# EAGLE library part OP297* (library my_mixed)
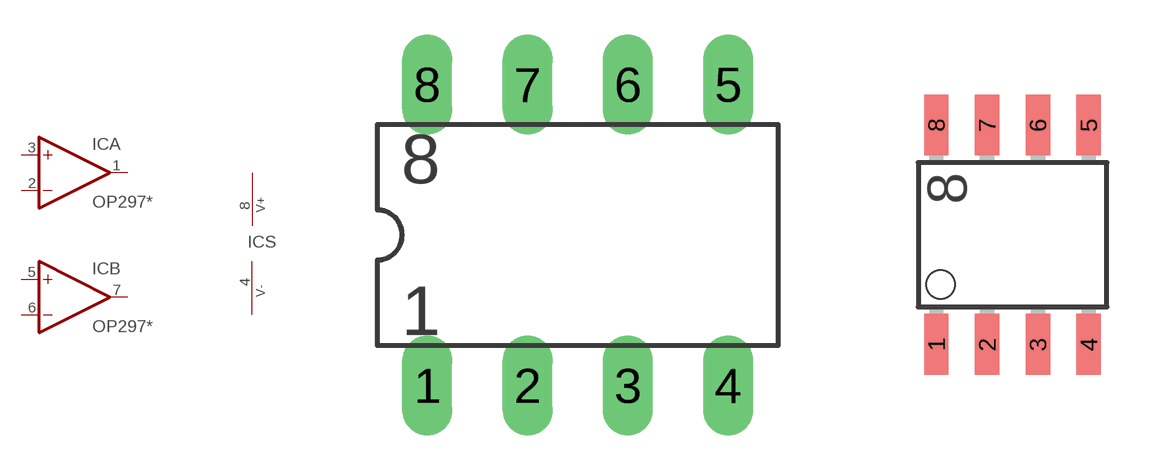
[diagram p20: symbol with the pads of DIL08-2; footprints DIL08-2, SO8]

Designator prefix IC; gates A=OPA B=OPB S=OPSUP

## OP297P  [DIL08-2]
1  A:OUT  out
2  A:-IN  in
3  A:+IN  in
4  S:V-  pwr
5  B:+IN  in
6  B:-IN  in
7  B:OUT  out
8  S:V+  pwr

## OP297S  [SO8]
Pads as for DIL08-2

## Footprint DIL08-2 (pad centres in mm)
DIL08-2
drill 0.305 pad 1.27 long: 1 -3.81,-3.81; 2 -1.27,-3.81; 3 1.27,-3.81; 4 3.81,-3.81; 5 3.81,3.81; 6 1.27,3.81; 7 -1.27,3.81; 8 -3.81,3.81

## Footprint SO8 (pad centres in mm)
smd 0.61 x 1.524: 1 -1.905,-2.743; 2 -0.635,-2.743; 3 0.635,-2.743; 4 1.905,-2.743; 5 1.905,2.743; 6 0.635,2.743; 7 -0.635,2.743; 8 -1.905,2.743